# Altium footprint library PCB - LEADLESS - SON - INFINEON PG-TSDSON-8.PCBLIB: 1 footprints
Each footprint in its own frame and in the unit in brackets; x right, y up, seen from the top. Pads: shape width x height; smd on the part's side, far side on the other; paste and mask are expansions set on the pad; w line width, h text height; cw(c..) or ccw(c..) is an arc to the next point about the centre after c.
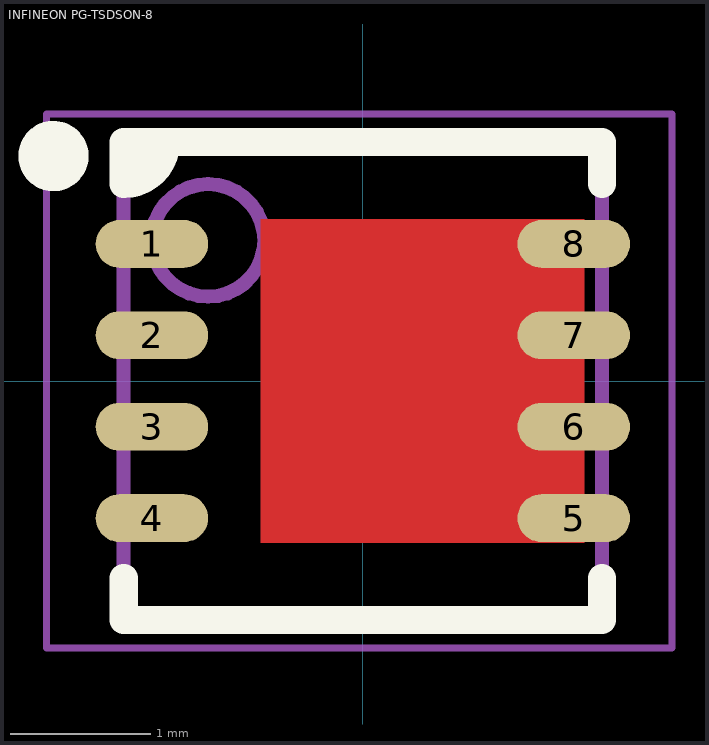
[diagram p0: the footprint, top view; thin cyan lines are the x and y axes]

## INFINEON PG-TSDSON-8 [mm] "PG-TSDSOFN, 8-Leads, Body 3.30x3.30mm, Pitch 0.65mm, Thermal Pad 1.70x1.70mm, IPC Medium Density"
height 1.1
pads (8):
  oval 0.8x0.34 smd: 1(-1.5,0.975) 2(-1.5,0.325) 3(-1.5,-0.325) 4(-1.5,-0.975) 5(1.5,-0.975) 6(1.5,-0.325) 7(1.5,0.325) 8(1.5,0.975)
Top Layer:
  region: -0.725,1.15 1.575,1.15 1.575,-1.15 -0.725,-1.15
Top Overlay:
  circle w0.25: c-2.2,1.6 r0.125
  region: -1.7,1.4 -1.7,1.7
  region: -1.7,1.7 -1.4,1.7 -1.4,1.64 -1.446,1.53 -1.53,1.446 -1.64,1.4 -1.7,1.4
  lines w0.2: -1.7,-1.4 -1.7,-1.7 1.7,-1.7 1.7,-1.4 ; -1.4,1.7 cw(c-1.7,1.7) -1.7,1.4 -1.7,1.7 1.7,1.7 1.7,1.4
Mechanical 13:
  lines w0.1: -1.7,-1.7 1.7,-1.7 1.7,1.7 -1.7,1.7 -1.7,-1.7 ; -0.7,1 ccw(c-1.1,1) -0.7,1
Mechanical 15:
  lines w0.05: -2.25,-1.9 2.2,-1.9 2.2,1.9 -2.25,1.9 -2.25,-1.9
  lines w0.1: -0.5,0 0.5,0 ; 0,-0.5 0,0.5
3D body: height 1.1, standoff 0.01, extent -1.7,-1.7 1.7,1.7